# Altium schematic symbol library MicroSD.SchLib: 7 symbols
Pins are listed as number, name and electrical type; pins without a type are passive.

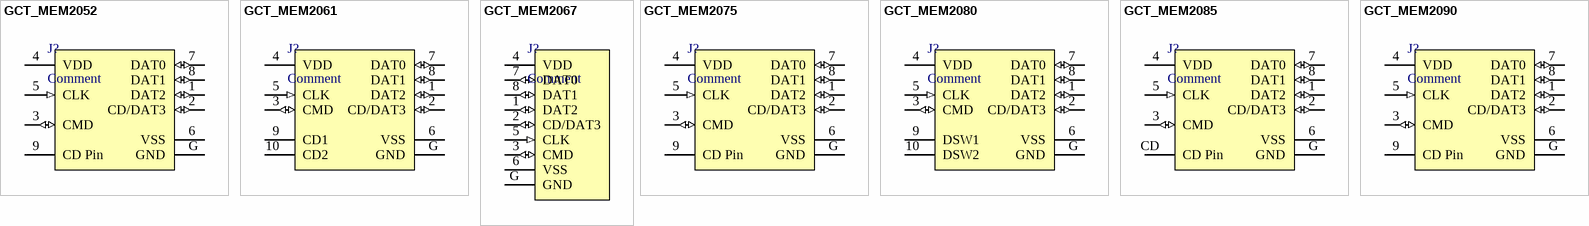
[diagram p0: symbols GCT_MEM2052 to GCT_MEM2090]

## GCT_MEM2052
designator J?, comment Comment
pins: 1 DAT2 (io) "Data Bit 2", 2 CD/DAT3 (io) "Card Detect/ Data Bit 3", 3 CMD (io) "Command Line", 4 VDD (power) "Supply Voltage", 5 CLK (in) "Clock", 6 VSS (power) "Ground", 7 DAT0 (io) "Data Bit 0", 8 DAT1 (io) "Data Bit 1", 9 CD Pin "Card Detect Pin", G GND (power) "Chassis Ground"

## GCT_MEM2061
designator J?, comment Comment
pins: 1 DAT2 (io) "Data Bit 2", 2 CD/DAT3 (io) "Card Detect/ Data Bit 3", 3 CMD (io) "Command Line", 4 VDD (power) "Supply Voltage", 5 CLK (in) "Clock", 6 VSS (power) "Ground", 7 DAT0 (io) "Data Bit 0", 8 DAT1 (io) "Data Bit 1", 9 CD1 "Card Detect Pin 1", 10 CD2 "Card Detect Pin 1", G GND (power) "Chassis Ground"

## GCT_MEM2067
designator J?, comment Comment
pins: 1 DAT2 (io) "Data Bit 2", 2 CD/DAT3 (io) "Card Detect/ Data Bit 3", 3 CMD (io) "Command Line", 4 VDD (power) "Supply Voltage", 5 CLK (in) "Clock", 6 VSS (power) "Ground", 7 DAT0 (io) "Data Bit 0", 8 DAT1 (io) "Data Bit 1", G GND (power) "Chassis Ground"

## GCT_MEM2075
designator J?, comment Comment
pins: 1 DAT2 (io) "Data Bit 2", 2 CD/DAT3 (io) "Card Detect/ Data Bit 3", 3 CMD (io) "Command Line", 4 VDD (power) "Supply Voltage", 5 CLK (in) "Clock", 6 VSS (power) "Ground", 7 DAT0 (io) "Data Bit 0", 8 DAT1 (io) "Data Bit 1", 9 CD Pin "Card Detect Pin", G GND (power) "Chassis Ground"

## GCT_MEM2080
designator J?, comment Comment
pins: 1 DAT2 (io) "Data Bit 2", 2 CD/DAT3 (io) "Card Detect/ Data Bit 3", 3 CMD (io) "Command Line", 4 VDD (power) "Supply Voltage", 5 CLK (in) "Clock", 6 VSS (power) "Ground", 7 DAT0 (io) "Data Bit 0", 8 DAT1 (io) "Data Bit 1", 9 DSW1 "Detected Lever (VSS: GND)", 10 DSW2 "Detected Switch", G GND (power) "Chassis Ground"

## GCT_MEM2085
designator J?, comment Comment
pins: 1 DAT2 (io) "Data Bit 2", 2 CD/DAT3 (io) "Card Detect/ Data Bit 3", 3 CMD (io) "Command Line", 4 VDD (power) "Supply Voltage", 5 CLK (in) "Clock", 6 VSS (power) "Ground", 7 DAT0 (io) "Data Bit 0", 8 DAT1 (io) "Data Bit 1", CD CD Pin "Card Detect Pin", G GND (power) "Chassis Ground"

## GCT_MEM2090
designator J?, comment Comment
pins: 1 DAT2 (io) "Data Bit 2", 2 CD/DAT3 (io) "Card Detect/ Data Bit 3", 3 CMD (io) "Command Line", 4 VDD (power) "Supply Voltage", 5 CLK (in) "Clock", 6 VSS (power) "Ground", 7 DAT0 (io) "Data Bit 0", 8 DAT1 (io) "Data Bit 1", 9 CD Pin "Card Detect Pin", G GND (power) "Chassis Ground"